# EAGLE library part NUCLEO-F446-RE-CON (library stm)
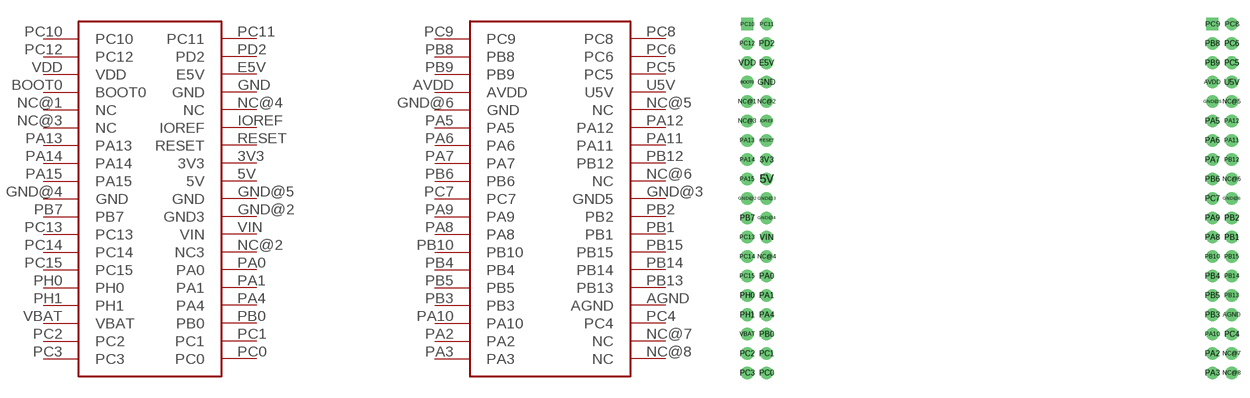
[diagram p1: symbol with the pads of NUCLEO-F446RE-CON; footprint NUCLEO-F446RE-CON]

Designator prefix -

## NUCLEO-F446-RE-CON  [NUCLEO-F446RE-CON]
3V3  3V3
5V  5V
AGND  AGND
AVDD  AVDD
BOOT0  BOOT0
E5V  E5V
GND  GND
GND@2  GND3
GND@3  GND5
GND@4  GND
GND@5  GND
GND@6  GND
IOREF  IOREF
NC@1  NC
NC@2  NC3
NC@3  NC
NC@4  NC
NC@5  NC
NC@6  NC
NC@7  NC
NC@8  NC
PA0  PA0
PA1  PA1
PA2  PA2
PA3  PA3
PA4  PA4
PA5  PA5
PA6  PA6
PA7  PA7
PA8  PA8
PA9  PA9
PA10  PA10
PA11  PA11
PA12  PA12
PA13  PA13
PA14  PA14
PA15  PA15
PB0  PB0
PB1  PB1
PB2  PB2
PB3  PB3
PB4  PB4
PB5  PB5
PB6  PB6
PB7  PB7
PB8  PB8
PB9  PB9
PB10  PB10
PB12  PB12
PB13  PB13
PB14  PB14
PB15  PB15
PC0  PC0
PC1  PC1
PC2  PC2
PC3  PC3
PC4  PC4
PC5  PC5
PC6  PC6
PC7  PC7
PC8  PC8
PC9  PC9
PC10  PC10
PC11  PC11
PC12  PC12
PC13  PC13
PC14  PC14
PC15  PC15
PD2  PD2
PH0  PH0
PH1  PH1
RESET  RESET
U5V  U5V
VBAT  VBAT
VDD  VDD
VIN  VIN

## Footprint NUCLEO-F446RE-CON (pad centres in mm)
drill 1.1: 3V3 -30.48,5.08; 5V -30.48,2.54; AGND 30.48,-15.24; AVDD 27.94,15.24; BOOT0 -33.02,15.24; E5V -30.48,17.78; GND -30.48,15.24; GND@2 -33.02,0; GND@3 -30.48,0; GND@4 -30.48,-2.54; GND@5 27.94,12.7; GND@6 30.48,0; IOREF -30.48,10.16; NC@1 -33.02,12.7; NC@2 -30.48,12.7; NC@3 -33.02,10.16; NC@4 -30.48,-7.62; NC@5 30.48,12.7; NC@6 30.48,2.54; NC@7 30.48,-20.32; NC@8 30.48,-22.86; PA0 -30.48,-10.16; PA1 -30.48,-12.7; PA2 27.94,-20.32; PA3 27.94,-22.86; PA4 -30.48,-15.24; PA5 27.94,10.16; PA6 27.94,7.62; PA7 27.94,5.08; PA8 27.94,-5.08; PA9 27.94,-2.54; PA10 27.94,-17.78; PA11 30.48,7.62; PA12 30.48,10.16; PA13 -33.02,7.62; PA14 -33.02,5.08; PA15 -33.02,2.54; PB0 -30.48,-17.78; PB1 30.48,-5.08; PB2 30.48,-2.54; PB3 27.94,-15.24; PB4 27.94,-10.16; PB5 27.94,-12.7; PB6 27.94,2.54; PB7 -33.02,-2.54; PB8 27.94,20.32; PB9 27.94,17.78; PB10 27.94,-7.62; PB12 30.48,5.08; PB13 30.48,-12.7; PB14 30.48,-10.16; PB15 30.48,-7.62; PC0 -30.48,-22.86; PC1 -30.48,-20.32; PC2 -33.02,-20.32; PC3 -33.02,-22.86; PC4 30.48,-17.78; PC5 30.48,17.78; PC6 30.48,20.32; PC7 27.94,0; PC12 -33.02,20.32; PC13 -33.02,-5.08; PC14 -33.02,-7.62; PC15 -33.02,-10.16; PD2 -30.48,20.32; PH0 -33.02,-12.7; PH1 -33.02,-15.24; RESET -30.48,7.62; U5V 30.48,15.24; VBAT -33.02,-17.78; VDD -33.02,17.78; VIN -30.48,-5.08
drill 1.06: PC8 30.48,22.86; PC11 -30.48,22.86
drill 1.06 square: PC9 27.94,22.86; PC10 -33.02,22.86